# EAGLE library part CONN_5X2 (library bschulz)
Genaric 10 terminal (5x2) header Digikey 1.27MM <https://www.digikey.com/en/products/detail/sullins-connector-solutions/GRPB052VWVN-RC/1786455>
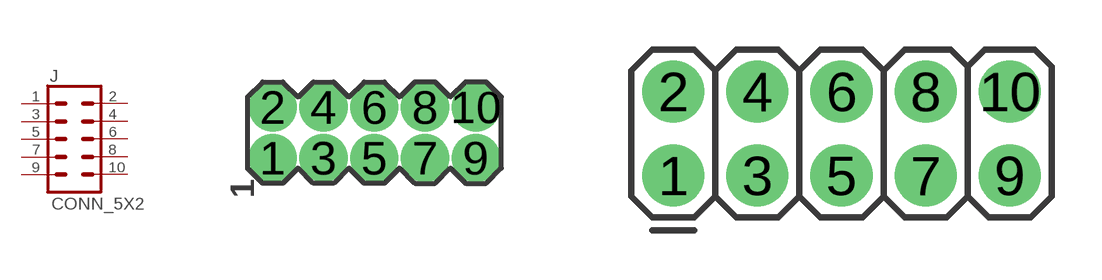
[diagram p176: symbol with the pads of 2X5_1.27; footprints 2X5_1.27, 2X5]

Designator prefix J

## CONN_5X21.27MM (DIGIKEY: S9015E-05-ND; MF: Sullins; MPN: GRPB052VWVN-RC)  [2X5_1.27]
1  1
2  2
3  3
4  4
5  5
6  6
7  7
8  8
9  9
10  10

## CONN_5X22.54MM  [2X5]
Pads as for 2X5_1.27

## Footprint 2X5_1.27 (pad centres in mm)
drill 0.7 pad 1.05: 1 -2.54,-0.635; 2 -2.54,0.635; 3 -1.27,-0.635; 4 -1.27,0.635; 5 0,-0.635; 6 0,0.635; 7 1.27,-0.635; 8 1.27,0.635; 9 2.54,-0.635; 10 2.54,0.635

## Footprint 2X5 (pad centres in mm)
Plated Through Hole - 2x5 Specifications: Pin count:6 Pin pitch:0.1" Example device(s): CONN_05x2
drill 1.016 pad 1.88: 1 -5.08,-1.27; 2 -5.08,1.27; 3 -2.54,-1.27; 4 -2.54,1.27; 5 0,-1.27; 6 0,1.27; 7 2.54,-1.27; 8 2.54,1.27; 9 5.08,-1.27; 10 5.08,1.27